# Altium footprint library 936263006.PcbLib: 1 footprints
Each footprint in its own frame and in the unit in brackets; x right, y up, seen from the top. Pads: shape width x height; smd on the part's side, far side on the other; paste and mask are expansions set on the pad; w line width, h text height; cw(c..) or ccw(c..) is an arc to the next point about the centre after c.
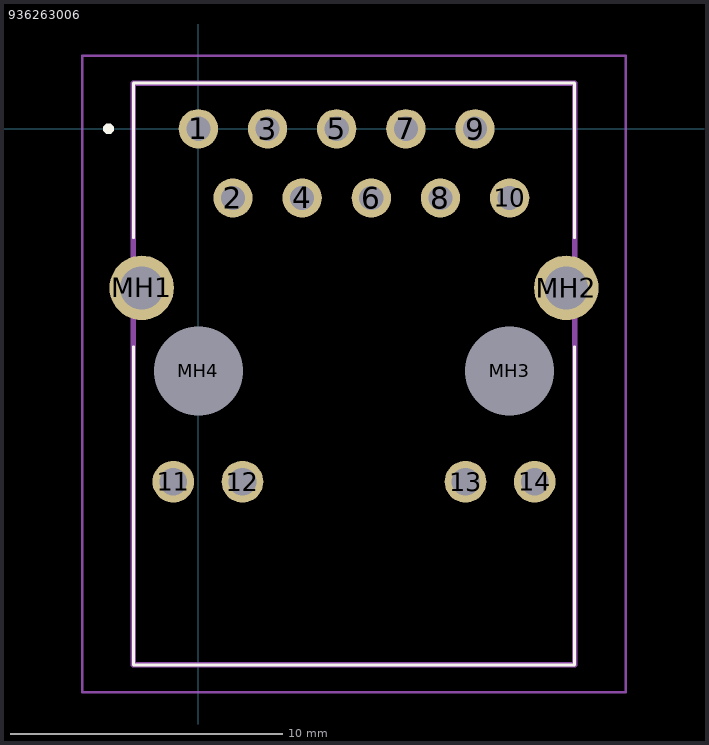
[diagram p0: the footprint, top view; thin cyan lines are the x and y axes]

## 936263006 [mm]
pads (18):
  round 1.446 hole 0.89: 1(0,0) 2(1.27,-2.54) 3(2.54,0) 4(3.81,-2.54) 5(5.08,0) 6(6.35,-2.54) 7(7.62,0) 8(8.89,-2.54) 9(10.16,0) 10(11.43,-2.54)
  round 1.53 hole 1.02: 11(-0.92,-12.96) 12(1.62,-12.96) 13(9.81,-12.96) 14(12.35,-12.96)
  round 2.37 hole 1.58: MH1(-2.08,-5.84) MH2(13.51,-5.84)
  round 1.63 hole 3.26 unplated: MH3(11.43,-8.89) MH4(0,-8.89)
Top Overlay:
  lines w0.1: -2.385,-8 -2.385,-19.69 13.815,-19.69 13.815,-8 ; -2.385,-4 -2.385,1.68 13.815,1.68 13.815,-4
  lines w0.2: -3.4,0 cw(c-3.3,0) -3.2,0 ; -3.4,0 -3.4,0 ; -3.4,0 ccw(c-3.3,0) -3.2,0 ; -3.2,0 -3.2,0
Mechanical 15:
  lines w0.2: -2.385,-19.69 13.815,-19.69 13.815,1.68 -2.385,1.68 -2.385,-19.69
Mechanical 20:
  lines w0.1: -4.265,-20.69 15.695,-20.69 15.695,2.68 -4.265,2.68 -4.265,-20.69